# Altium schematic symbol library PE42442A.SchLib: 1 symbol
Pins are listed as number, name and electrical type; pins without a type are passive.

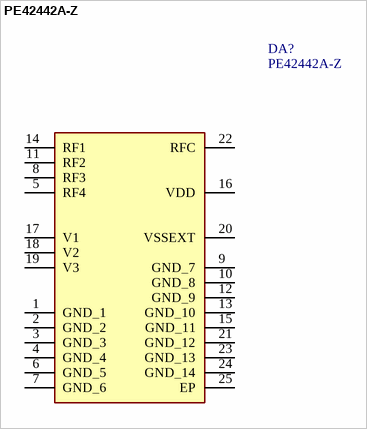
[diagram p0: symbol PE42442A-Z]

## PE42442A-Z
designator DA?
Integrated Circuit; Manufacturer_Name: Peregrine Semiconductor; Datasheet Link: https://componentsearchengine.com/Datasheets/1/PE42442A-Z.pdf; Height: 0.8mm; Manufacturer_Part_Number: PE42442A-Z; Mouser Part Number: 81-PE42442A-Z; Mouser Price/Stock: https://www.mouser.co.uk/ProductDetail/pSemi/PE42442A-Z?qs=iw0hurA%2FaD3GGAlg9viEdg%3D%3D
footprint QFN50P400X400X80-25N-D
pins: 1 GND_1, 2 GND_2, 3 GND_3, 4 GND_4, 5 RF4, 6 GND_5, 7 GND_6, 8 RF3, 9 GND_7, 10 GND_8, 11 RF2, 12 GND_9, 13 GND_10, 14 RF1, 15 GND_11, 16 VDD, 17 V1, 18 V2, 19 V3, 20 VSSEXT, 21 GND_12, 22 RFC, 23 GND_13, 24 GND_14, 25 EP